# EAGLE library part SAMACSYS_PARTS_TPN19008QM,LQ (library biblioteka)
MOSFET PD=57W F=1MHZ Source: Datasheet <https://www.mouser.com/datasheet/2/408/TPN19008QM_datasheet_en_20191021-1815473.pdf>
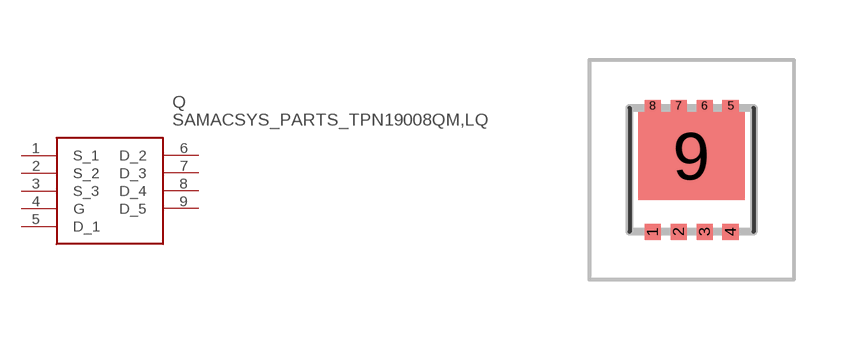
[diagram p0: symbol with the pads of SAMACSYS_PARTS_TPN2R304PLL1Q; footprint SAMACSYS_PARTS_TPN2R304PLL1Q]

Designator prefix Q

## SAMACSYS_PARTS_TPN19008QM,LQ (DESCRIPTION: MOSFET PD=57W F=1MHZ; HEIGHT: 1mm; MANUFACTURER_NAME: Toshiba; MANUFACTURER_PART_NUMBER: TPN19008QM,LQ)  [SAMACSYS_PARTS_TPN2R304PLL1Q]
1  S_1
2  S_2
3  S_3
4  G
5  D_1
6  D_2
7  D_3
8  D_4
9  D_5

## Footprint SAMACSYS_PARTS_TPN2R304PLL1Q (pad centres in mm)
TSON ADVANCE_23
smd 0.4 x 0.4: 1 -0.975,-1.575; 2 -0.325,-1.575; 3 0.325,-1.575; 4 0.975,-1.575
smd 0.4 x 0.3: 5 0.975,1.575; 6 0.325,1.575; 7 -0.325,1.575; 8 -0.975,1.575
smd 2.65 x 2.2: 9 0,0.325